# Altium schematic symbol library 05E_Transitor.SchLib: 2 symbols
Pins are listed as number, name and electrical type; pins without a type are passive.

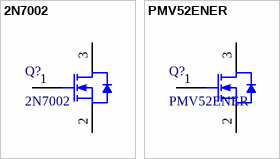
[diagram p0: symbols 2N7002 to PMV52ENER]

## 2N7002
designator Q?
Supplier 1: Mouser; Supplier 2: Rs; Supplier Part Number 1: 726-2N7002H6327XTSA2; Supplier Part Number 2: 7527773P
footprint STM-SOT-23-3_V (SOT23, 3-Leads, Body 3.016x2.8mm, Pitch 0.95mm)
pins: 1 G, 2 S, 3 D

## PMV52ENER
designator Q?
LED Driving MOSFET
footprint PMV52ENER-STM-SOT-23-3 (SOT23, 3-Leads, Body 3.016x2.8mm, Pitch 0.95mm)
pins: 1 G, 2 S, 3 D